# EAGLE library part EMC2101 (library vinorodrigues-custom-eagle)
SMSC EMC2101 <https://www.microchip.com/wwwproducts/en/EMC2101> - SMBus Fan Control with 1°C Accurate Temperature Monitoring
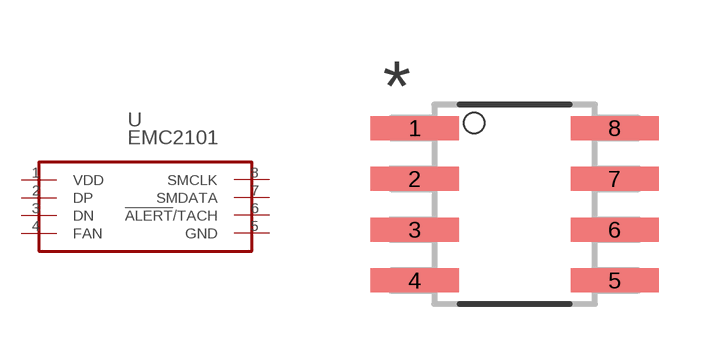
[diagram p4: symbol with the pads of SOIC-8; footprint SOIC-8]

Designator prefix U

## EMC2101 (MPN: SN65HVD3082ED; OC_FARNELL: 8452210; OC_NEWARK: 61H5396; PACKAGE: SOIC-8; SUPPLIER: Texas Instruments)  [SOIC-8]
1  VDD  pwr
2  DP  out
3  DN  in
4  FAN  out
5  GND  pas
6  !ALERT!/TACH  out
7  SMDATA
8  SMCLK

## Footprint SOIC-8 (pad centres in mm)
smd 2.2 x 0.6: 1 -2.5,1.905; 2 -2.5,0.635; 3 -2.5,-0.635; 4 -2.5,-1.905; 5 2.5,-1.905; 6 2.5,-0.635; 7 2.5,0.635; 8 2.5,1.905